# EAGLE library part NJW1616T (library user_ic)
新日本無線 降圧スイッチングレギュレータIC NJM1616T 秋月電子 通販コード : I-15765 NJW1933(115944)でも代用可
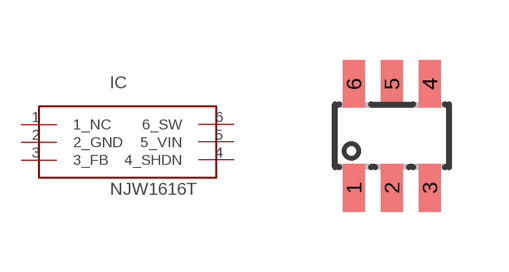
[diagram p29: symbol with the pads of SOT23-6; footprint SOT23-6]

Designator prefix IC

## NJW1616T  [SOT23-6]
1  1_NC
2  2_GND
3  3_FB
4  4_SHDN
5  5_VIN
6  6_SW

## Footprint SOT23-6 (pad centres in mm)
smd 0.55 x 1.2: 1 -0.95,-1.3; 2 0,-1.3; 3 0.95,-1.3; 4 0.95,1.3; 5 0,1.3; 6 -0.95,1.3